# EAGLE library part DRV8848 (library pandasat)
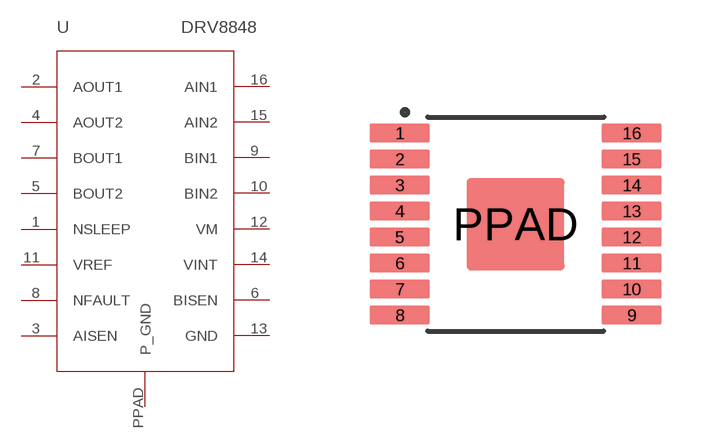
[diagram p2: symbol with the pads of HTSSOP; footprint HTSSOP]

Designator prefix -

## DRV8848  [HTSSOP]
1  NSLEEP
2  AOUT1
3  AISEN
4  AOUT2
5  BOUT2
6  BISEN
7  BOUT1
8  NFAULT
9  BIN1
10  BIN2
11  VREF
12  VM
13  GND
14  VINT
15  AIN2
16  AIN1
PPAD  P_GND

## Footprint HTSSOP (pad centres in mm)
smd 1.5 x 0.45: 1 -2.9,1.95; 2 -2.9,1.3; 3 -2.9,0.65; 4 -2.9,0; 5 -2.9,-0.65; 6 -2.9,-1.3; 7 -2.9,-1.95; 8 -2.9,-2.6; 9 2.9,-2.6; 10 2.9,-1.95; 11 2.9,-1.3; 12 2.9,-0.65; 13 2.9,0; 14 2.9,0.65; 15 2.9,1.3; 16 2.9,1.95
smd 2.46 x 2.31: PPAD -0.005,-0.33